# Altium integrated library Panasonic-POSCAP.IntLib: 37 symbols
Pins are listed as number, name and electrical type; pins without a type are passive.

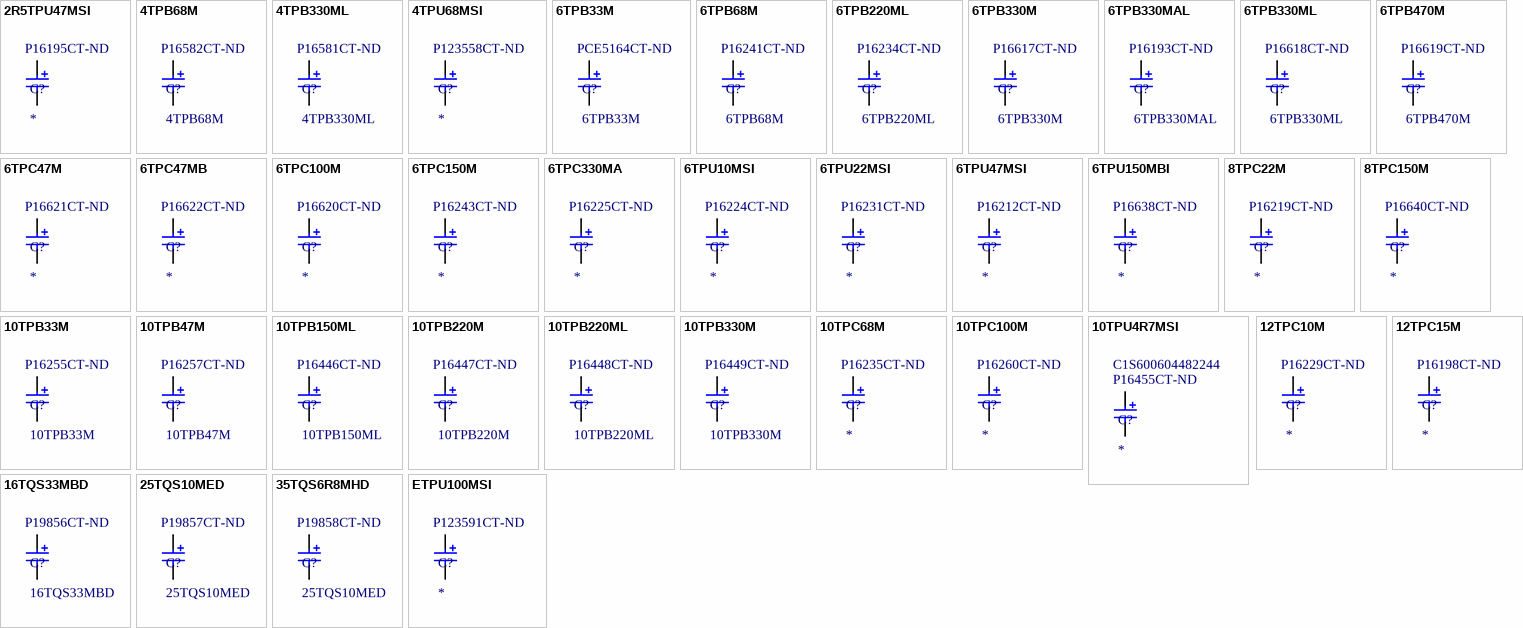
[diagram p0: symbols 2R5TPU47MSI to ETPU100MSI]

## 2R5TPU47MSI
designator C?  Supplier Part Number 1: P16195CT-ND
POSCAP TPU 47uF 2.5v; Supplier 1: Digi-Key
footprint POSCAP-TPU_S09 (Panasonic POSCAP TPU Series S09 Package)
pins: +, -

## 4TPB68M
designator C?  Supplier Part Number 1: P16582CT-ND
POSCAP TPB 68uF 4v; Supplier 1: Digi-Key
footprint POSCAP-TPB_B2
pins: +, -

## 4TPB330ML
designator C?  Supplier Part Number 1: P16581CT-ND
POSCAP TPB 330uF 4v; Supplier 1: Digi-Key
footprint POSCAP-TPB_D3L
pins: +, -

## 4TPU68MSI
designator C?  Supplier Part Number 1: P123558CT-ND
POSCAP TPU 68uF 4v; Supplier 1: Digi-Key
footprint POSCAP-TPU_S09 (Panasonic POSCAP TPU Series S09 Package)
pins: +, -

## 6TPB33M
designator C?  Supplier Part Number 1: PCE5164CT-ND
POSCAP TPB 33uF 6v; Supplier 1: Digi-Key
footprint POSCAP-TPB_B2
pins: +, -

## 6TPB68M
designator C?  Supplier Part Number 1: P16241CT-ND
POSCAP TPB 68uF 6v; Supplier 1: Digi-Key
footprint POSCAP-TPB_B2
pins: +, -

## 6TPB220ML
designator C?  Supplier Part Number 1: P16234CT-ND
POSCAP TPB 220uF 6v; Supplier 1: Digi-Key
footprint POSCAP-TPB_D3L
pins: +, -

## 6TPB330M
designator C?  Supplier Part Number 1: P16617CT-ND
POSCAP TPB 330uF 6v; Supplier 1: Digi-Key
footprint POSCAP-TPB_D4
pins: +, -

## 6TPB330MAL
designator C?  Supplier Part Number 1: P16193CT-ND
POSCAP TPB 330uF 6v; Supplier 1: Digi-Key
footprint POSCAP-TPB_D3L
pins: +, -

## 6TPB330ML
designator C?  Supplier Part Number 1: P16618CT-ND
POSCAP TPB 330uF 6v / High temperture resist; Supplier 1: Digi-Key
footprint POSCAP-TPB_D3L
pins: +, -

## 6TPB470M
designator C?  Supplier Part Number 1: P16619CT-ND
POSCAP TPB 470uF 6v; Supplier 1: Digi-Key
footprint POSCAP-TPB_D4
pins: +, -

## 6TPC47M
designator C?  Supplier Part Number 1: P16621CT-ND
POSCAP TPC 47uF 6.3v; Supplier 1: Digi-Key
footprint POSCAP-TPC_B1 (Panasonic POSCAP TPC Series B1 Package)
pins: +, -

## 6TPC47MB
designator C?  Supplier Part Number 1: P16622CT-ND
POSCAP TPC 47uF 6.3v; Supplier 1: Digi-Key
footprint POSCAP-TPC_B1 (Panasonic POSCAP TPC Series B1 Package)
pins: +, -

## 6TPC100M
designator C?  Supplier Part Number 1: P16620CT-ND
POSCAP TPC 100uF 6.3v; Supplier 1: Digi-Key
footprint POSCAP-TPC_D2 (Panasonic POSCAP TPC Series D2 Package)
pins: +, -

## 6TPC150M
designator C?  Supplier Part Number 1: P16243CT-ND
POSCAP TPC 150uF 6.3v; Supplier 1: Digi-Key
footprint POSCAP-TPC_D2 (Panasonic POSCAP TPC Series D2 Package)
pins: +, -

## 6TPC330MA
designator C?  Supplier Part Number 1: P16225CT-ND
POSCAP TPC 330uF 6.3v; Supplier 1: Digi-Key
footprint POSCAP-TPC_D2 (Panasonic POSCAP TPC Series D2 Package)
pins: +, -

## 6TPU10MSI
designator C?  Supplier Part Number 1: P16224CT-ND
POSCAP TPU 10uF 6.3v; Supplier 1: Digi-Key
footprint POSCAP-TPU_S09 (Panasonic POSCAP TPU Series S09 Package)
pins: +, -

## 6TPU22MSI
designator C?  Supplier Part Number 1: P16231CT-ND
POSCAP TPU 22uF 6.3v; Supplier 1: Digi-Key
footprint POSCAP-TPU_S09 (Panasonic POSCAP TPU Series S09 Package)
pins: +, -

## 6TPU47MSI
designator C?  Supplier Part Number 1: P16212CT-ND
POSCAP TPU 47uF 6.3v; Supplier 1: Digi-Key
footprint POSCAP-TPU_S09 (Panasonic POSCAP TPU Series S09 Package)
pins: +, -

## 6TPU150MBI
designator C?  Supplier Part Number 1: P16638CT-ND
POSCAP TPU 150uF 6v; Supplier 1: Digi-Key
footprint POSCAP-TPU_B09 (Panasonic POSCAP TPU Series B09 Package)
pins: +, -

## 8TPC22M
designator C?  Supplier Part Number 1: P16219CT-ND
POSCAP TPC 22F 8v; Supplier 1: Digi-Key
footprint POSCAP-TPC_B1 (Panasonic POSCAP TPC Series B1 Package)
pins: +, -

## 8TPC150M
designator C?  Supplier Part Number 1: P16640CT-ND
POSCAP TPC 150uF 8v; Supplier 1: Digi-Key
footprint POSCAP-TPC_D2 (Panasonic POSCAP TPC Series D2 Package)
pins: +, -

## 10TPB33M
designator C?  Supplier Part Number 1: P16255CT-ND
POSCAP TPB 33uF 10v; Supplier 1: Digi-Key
footprint POSCAP-TPB_B2
pins: +, -

## 10TPB47M
designator C?  Supplier Part Number 1: P16257CT-ND
POSCAP TPB 47uF 10v; Supplier 1: Digi-Key
footprint POSCAP-TPB_B2
pins: +, -

## 10TPB150ML
designator C?  Supplier Part Number 1: P16446CT-ND
POSCAP TPB 150uF 10v; Supplier 1: Digi-Key
footprint POSCAP-TPB_D3L
pins: +, -

## 10TPB220M
designator C?  Supplier Part Number 1: P16447CT-ND
POSCAP TPB 220uF 10v; Supplier 1: Digi-Key
footprint POSCAP-TPB_D4
pins: +, -

## 10TPB220ML
designator C?  Supplier Part Number 1: P16448CT-ND
POSCAP TPB 220uF 10v; Supplier 1: Digi-Key
footprint POSCAP-TPB_D3L
pins: +, -

## 10TPB330M
designator C?  Supplier Part Number 1: P16449CT-ND
POSCAP TPB 330uF 10v; Supplier 1: Digi-Key
footprint POSCAP-TPB_D4
pins: +, -

## 10TPC68M
designator C?  Supplier Part Number 1: P16235CT-ND
POSCAP TPC 68uF 10v; Supplier 1: Digi-Key
footprint POSCAP-TPC_D2 (Panasonic POSCAP TPC Series D2 Package)
pins: +, -

## 10TPC100M
designator C?  Supplier Part Number 1: P16260CT-ND
POSCAP TPC 100uF 10v; Supplier 1: Digi-Key
footprint POSCAP-TPC_D2 (Panasonic POSCAP TPC Series D2 Package)
pins: +, -

## 10TPU4R7MSI
designator C?  Supplier Part Number 1: P16455CT-ND  Supplier Part Number 2: C1S600604482244
POSCAP TPU 4.7uF 10v; Supplier 1: Digi-Key; Supplier 2: Chip One Stop
footprint POSCAP-TPU_S09 (Panasonic POSCAP TPU Series S09 Package)
pins: +, -

## 12TPC10M
designator C?  Supplier Part Number 1: P16229CT-ND
POSCAP TPC 10uF 12v; Supplier 1: Digi-Key
footprint POSCAP-TPC_B1 (Panasonic POSCAP TPC Series B1 Package)
pins: +, -

## 12TPC15M
designator C?  Supplier Part Number 1: P16198CT-ND
POSCAP TPC 10uF 12v; Supplier 1: Digi-Key
footprint POSCAP-TPC_B1 (Panasonic POSCAP TPC Series B1 Package)
pins: +, -

## 16TQS33MBD
designator C?  Supplier Part Number 1: P19856CT-ND
POSCAP TQS 33uF 16v; Supplier 1: Digi-Key
footprint POSCAP-TQS_B1S (Panasonic POSCAP TQS Series B1S Package)
pins: +, -

## 25TQS10MED
designator C?  Supplier Part Number 1: P19857CT-ND
POSCAP TQS 10uF 25V; Supplier 1: Digi-Key
footprint POSCAP-TQS_B1S (Panasonic POSCAP TQS Series B1S Package)
pins: +, -

## 35TQS6R8MHD
designator C?, comment 25TQS10MED  Supplier Part Number 1: P19858CT-ND
POSCAP TQS 6.8uF 35V; Supplier 1: Digi-Key
footprint POSCAP-TQS_B1S (Panasonic POSCAP TQS Series B1S Package)
pins: +, -

## ETPU100MSI
designator C?  Supplier Part Number 1: P123591CT-ND
POSCAP TPU 100uF 2.5v; Supplier 1: Digi-Key
footprint POSCAP-TPU_S09 (Panasonic POSCAP TPU Series S09 Package)
pins: +, -